# EAGLE library part DB-15 (library Shell2013 (1))
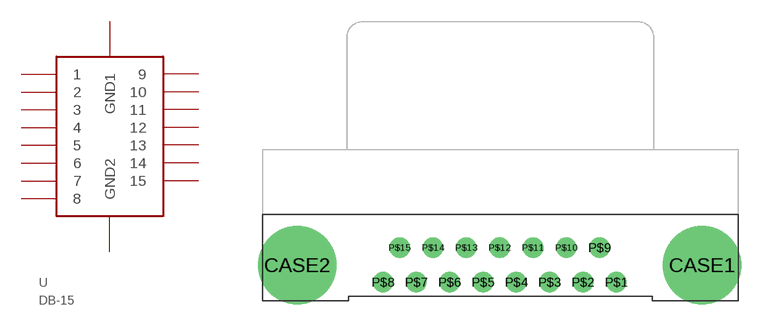
[diagram p9: symbol with the pads of DB-15; footprint DB-15]

Designator prefix -

## DB-15D  [DB-15]
CASE1  GND1
CASE2  GND2
P$1  1
P$2  2
P$3  3
P$4  4
P$5  5
P$6  6
P$7  7
P$8  8
P$9  9
P$10  10
P$11  11
P$12  12
P$13  13
P$14  14
P$15  15

## Footprint DB-15 (pad centres in mm)
drill 3.048 pad 6.452: CASE1 16.612,-1.422; CASE2 -16.713,-1.422
drill 0.8 pad 1.676: P$1 9.55,-2.845; P$2 6.807,-2.845; P$3 4.064,-2.845; P$4 1.321,-2.845; P$5 -1.422,-2.845; P$6 -4.166,-2.845; P$7 -6.909,-2.845; P$8 -9.652,-2.845; P$9 8.179,0; P$10 5.436,0; P$11 2.692,0; P$12 -0.051,0; P$13 -2.794,0; P$14 -5.537,0; P$15 -8.28,0